# EAGLE library part TXS0101DCKR (library Localization-Daughter-Board)
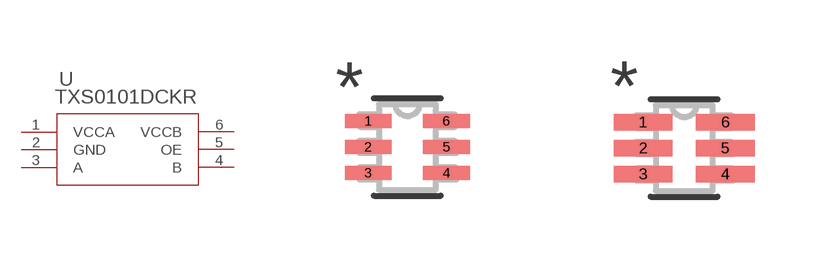
[diagram p1: symbol with the pads of DCK6; footprints DCK6, DCK6-M]

Designator prefix U

## TXS0101DCKR (MANUFACTURER_PART_NUMBER: TXS0101DCKR; VENDOR: Texas Instruments)  [DCK6]
1  VCCA  pwr
2  GND  pwr
3  A
4  B
5  OE  out
6  VCCB  pwr

## TXS0101DCKRDCK6-M (MANUFACTURER_PART_NUMBER: TXS0101DCKR; VENDOR: Texas Instruments)  [DCK6-M]
Pads as for DCK6

## TXS0101DCKRDCK6-L (MANUFACTURER_PART_NUMBER: TXS0101DCKR; VENDOR: Texas Instruments)  [DCK6-L]
Pads as for DCK6

## Footprint DCK6 (pad centres in mm)
smd 1.168 x 0.356: 1 -0.978,0.65; 2 -0.978,0; 3 -0.978,-0.65; 4 0.978,-0.65; 5 0.978,0; 6 0.978,0.65

## Footprint DCK6-M (pad centres in mm)
smd 1.473 x 0.406: 1 -1.029,0.65; 2 -1.029,0; 3 -1.029,-0.65; 4 1.029,-0.65; 5 1.029,0; 6 1.029,0.65

## Footprint DCK6-L (pad centres in mm)
smd 0.864 x 0.305: 1 -0.927,0.65; 2 -0.927,0; 3 -0.927,-0.65; 4 0.927,-0.65; 5 0.927,0; 6 0.927,0.65